# Altium schematic symbol library 常用元件库.SCHLIB: 66 symbols
Pins are listed as number, name and electrical type; pins without a type are passive.

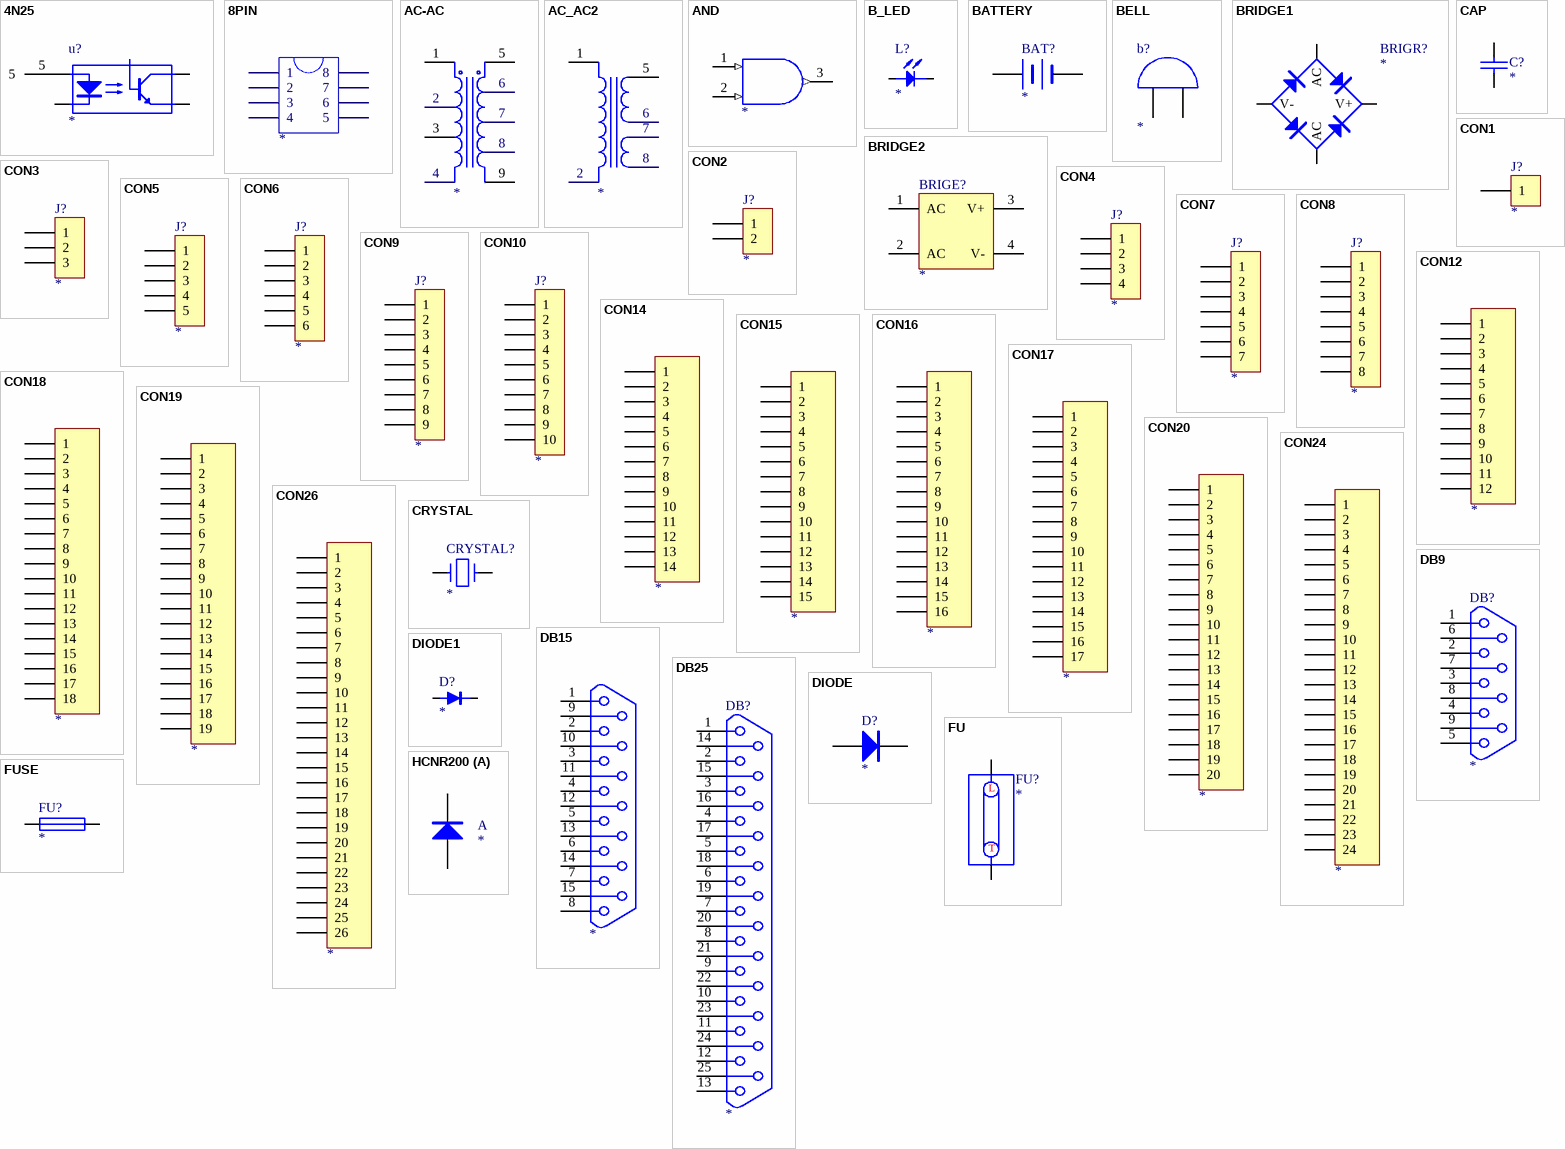
[diagram p0: symbols 4N25 to HCNR200]

## 4N25
designator u?
footprint DIP6
pins: 1 LED Anode, 2 LED Cathode, 3 Emitter, 4 Collector, 5

## 8PIN
designator ?
pins: 1, 2, 3, 4, 5, 6, 7, 8

## AC-AC
designator ?
pins: 1 Pri+, 2, 3 Pri-, 4, 5 Sec+, 6 sec, 7 sec-, 8, 9 Sec-

## AC_AC2
designator ?
pins: 1 Pri+, 2, 5 Sec+, 6 sec, 7 sec-, 8

## AND
designator ?
pins: 1 A (in), 2 B (in), 3 Y (out)

## B_LED
designator L?
footprint LED
pins: A, K

## BATTERY
designator BAT?
footprint BATTERY
pins: 1 +, 2 -

## BELL
designator b?
footprint bell
pins: 1, 2

## BRIDGE1
designator BRIGR?
footprint BRIDGE3
pins: 1 AC, 2 AC, 3 V+, 4 V-

## BRIDGE2
designator BRIGE?
footprint BRIDGE3
pins: 1 AC, 2 AC, 3 V+, 4 V-

## CAP
designator C?
footprint RAD0.1
footprint RAD0.2
footprint RAD0.3
pins: 1, 2

## CON1
designator J?
footprint DG1281-5.0
footprint SIP1
pins: 1

## CON2
designator J?
footprint DG1282-5.0
footprint SIP2
footprint DG1282
pins: 1, 2

## CON3
designator J?
footprint DG1283-5.0
footprint SIP3
pins: 1, 2, 3

## CON4
designator J?
footprint DG1284-5.0
footprint SIP4
footprint DG1284
pins: 1, 2, 3, 4

## CON5
designator J?
footprint DG1285-5.0
footprint SIP5
pins: 1, 2, 3, 4, 5

## CON6
designator J?
footprint DG1286-5.0
footprint SIP6
footprint DG1286
pins: 1, 2, 3, 4, 5, 6

## CON7
designator J?
footprint DG1287-5.0
footprint SIP7
pins: 1, 2, 3, 4, 5, 6, 7

## CON8
designator J?
footprint DG1288-5.0
footprint SIP8
pins: 1, 2, 3, 4, 5, 6, 7, 8

## CON9
designator J?
footprint DG1289-5.0
footprint SIP9
pins: 1, 2, 3, 4, 5, 6, 7, 8, 9

## CON10
designator J?
footprint DG12810-5.0
footprint sip10
pins: 1, 2, 3, 4, 5, 6, 7, 8, 9, 10

## CON12
designator ?
pins: 1, 2, 3, 4, 5, 6, 7, 8, 9, 10, 11, 12

## CON14
designator ?
pins: 1, 2, 3, 4, 5, 6, 7, 8, 9, 10, 11, 12, 13, 14

## CON15
designator ?
pins: 1, 2, 3, 4, 5, 6, 7, 8, 9, 10, 11, 12, 13, 14, 15

## CON16
designator ?
pins: 1, 2, 3, 4, 5, 6, 7, 8, 9, 10, 11, 12, 13, 14, 15, 16

## CON17
designator ?
pins: 1, 2, 3, 4, 5, 6, 7, 8, 9, 10, 11, 12, 13, 14, 15, 16, 17

## CON18
designator ?
pins: 1, 2, 3, 4, 5, 6, 7, 8, 9, 10, 11, 12, 13, 14, 15, 16, 17, 18

## CON19
designator ?
pins: 1, 2, 3, 4, 5, 6, 7, 8, 9, 10, 11, 12, 13, 14, 15, 16, 17, 18, 19

## CON20
designator ?
pins: 1, 2, 3, 4, 5, 6, 7, 8, 9, 10, 11, 12, 13, 14, 15, 16, 17, 18, 19, 20

## CON24
designator ?
pins: 1, 2, 3, 4, 5, 6, 7, 8, 9, 10, 11, 12, 13, 14, 15, 16, 17, 18, 19, 20, 21, 22, 23, 24

## CON26
designator ?
pins: 1, 2, 3, 4, 5, 6, 7, 8, 9, 10, 11, 12, 13, 14, 15, 16, 17, 18, 19, 20, 21, 22, 23, 24, 25, 26

## CRYSTAL
designator CRYSTAL?
footprint XTAL
pins: 1, 2

## DB9
designator DB?
footprint DB9
pins: 1, 2, 3, 4, 5, 6, 7, 8, 9

## DB15
designator ?
pins: 1, 2, 3, 4, 5, 6, 7, 8, 9, 10, 11, 12, 13, 14, 15

## DB25
designator DB?
footprint DB25
pins: 1, 2, 3, 4, 5, 6, 7, 8, 9, 10, 11, 12, 13, 14, 15, 16, 17, 18, 19, 20, 21, 22, 23, 24, 25

## DIODE
designator D?
footprint DIODE0.4A
pins: A, K

## DIODE1
designator D?
footprint DIODE0.4A
pins: A, K

## FU
designator FU?
footprint FUSE1
footprint FUSE2
pins: L, T

## FUSE
designator FU?
footprint FUSE1
footprint FUSE2
pins: 1, 2

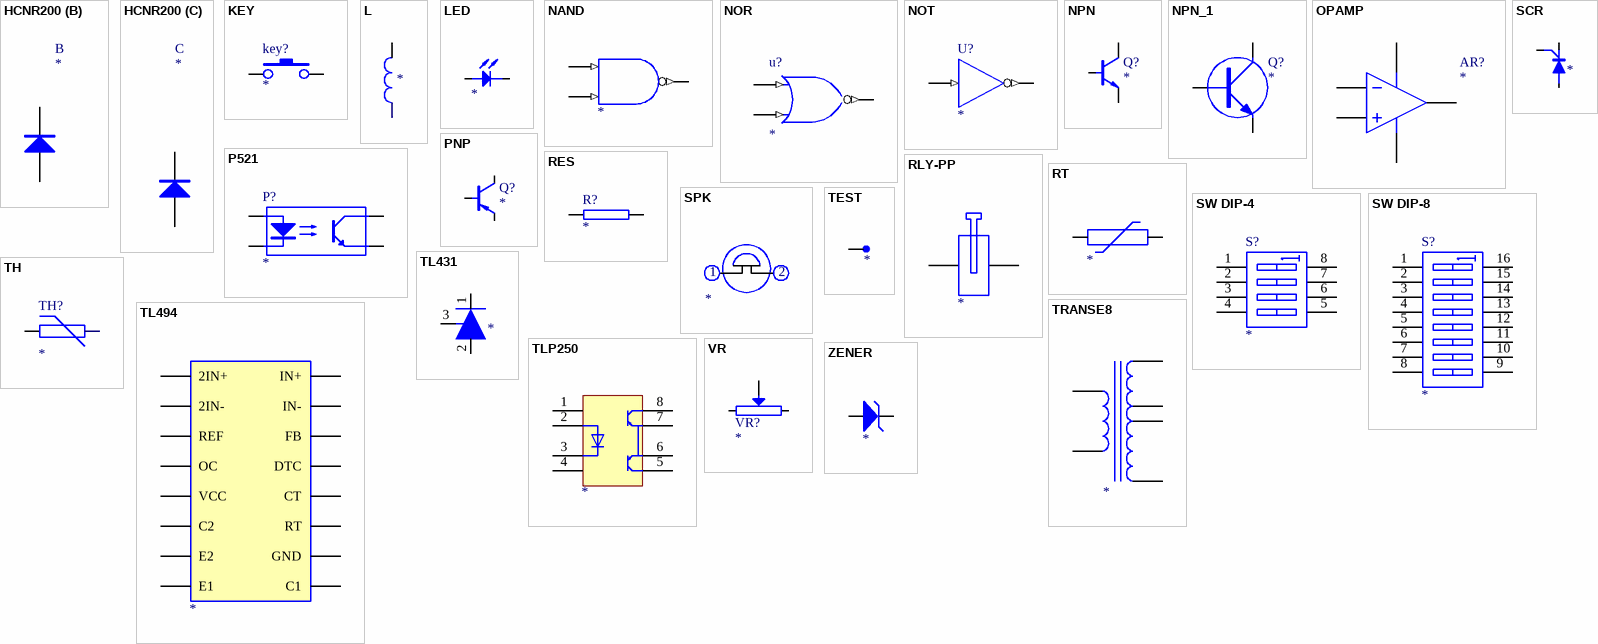
[diagram p1: symbols HCNR200 to ZENER]

## HCNR200
designator ?
part A pins: 1, 2
part B pins: 3, 4
part C pins: 5, 6

## KEY
designator key?
footprint AN12
footprint AN66
pins: 1, 2

## L
designator ?
pins: 1, 2

## LED
designator ?
footprint LED
pins: A, K

## NAND
designator ?
pins: 1 A (in), 2 B (in), 3 Y (out)

## NOR
designator u?
pins: 1 A (in), 2 B (in), 3 Y (out)

## NOT
designator U?
pins: 1 A (in), 2 Y (out)

## NPN
designator Q?
footprint TO-92
pins: B b, C c, E e

## NPN_1
designator Q?
NPN Transistor
pins: 1 E, 2 B, 3 C

## OPAMP
designator AR?
Operational Amplifier
pins: 1 IN-, 2 IN+, 3 OUT, 4 V+, 5 V-

## P521
designator P?
footprint DIP4
pins: 1 LED Anode, 2 LED Cathode, 3 Emitter, 4 Collector

## PNP
designator Q?
footprint TO-92
pins: B b, C c, E e

## RES
designator R?
footprint AXIAL0.4
footprint AXIAL0.5
pins: 1, 2

## RLY-PP
designator ?
pins: 7, 8

## RT
designator ?
pins: 1, 2

## SCR
designator ?
pins: A 2, G 1, K 3

## SPK
designator ?
text: 1; 2

## SW DIP-4
designator S?
DIP Switch
pins: 1 A1, 2 A2, 3 A3, 4 A4, 5 B4, 6 B3, 7 B2, 8 B1

## SW DIP-8
designator S?
DIP Switch
pins: 1 A1, 2 A2, 3 A3, 4 A4, 5 A5, 6 A6, 7 A7, 8 A8, 9 B8, 10 B7, 11 B6, 12 B5, 13 B4, 14 B3, 15 B2, 16 B1

## TEST
designator ?
pins: 1

## TH
designator TH?
footprint DIODE0.3
pins: 1, 2

## TL431
designator ?
pins: 1 K, 2 A, 3 REF

## TL494
designator ?
pins: 1 IN+, 2 IN-, 3 FB, 4 DTC, 5 CT, 6 RT, 7 GND, 8 C1, 9 E1, 10 E2, 11 C2, 12 VCC, 13 OC, 14 REF, 15 2IN-, 16 2IN+

## TLP250
designator ?
pins: 1 NC, 2 A, 3 K, 4 NC, 5 VSS, 6 OUT, 7 OUT, 8 VCC

## TRANSE8
designator ?
pins: 1, 2, 3, 4, 5, 6

## VR
designator VR?
footprint VR3296
footprint VR3296-1
pins: 1, 2, W

## ZENER
designator ?
pins: 1 A, 2 K